# Altium integrated library ASMT-YTD7-0AA02.IntLib: 1 symbol
Pins are listed as number, name and electrical type; pins without a type are passive.

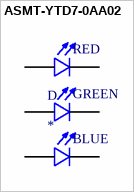
[diagram p0: symbol ASMT-YTD7-0AA02]

## ASMT-YTD7-0AA02
designator D
Red, Green, Blue (RGB) 623nm Red, 529nm Green, 469nm Blue LED Indication - Discrete 2.1V Red, 3.1V Green, 3.1V Blue 6-SMD, J-Lead; MP: ASMT-YTD7-0AA02; MF: Broadcom Limited; SnapEDA_Link: https://www.snapeda.com/parts/ASMT-YTD7-0AA02/Broadcom%20Limited/view-part/2679675/?ref=snap; Price: None; Availability: Unavailable; Value: *; DigiKey-Purchase-URL: https://snapeda.com/shop?store=DigiKey&id=2679675; Package: PLCC-6 Broadcom
footprint LED_ASMT-YTD7-0AA02
pins: 1 B_C, 2 G_C, 3 R_C, 4 R_A, 5 G_A, 6 B_A
text: RED; GREEN; BLUE